# Altium footprint library Tu dien.PcbLib: 73 footprints (part 3 of 5)
Each footprint in its own frame and in the unit in brackets; x right, y up, seen from the top. Pads: shape width x height; smd on the part's side, far side on the other; paste and mask are expansions set on the pad; w line width, h text height; cw(c..) or ccw(c..) is an arc to the next point about the centre after c.
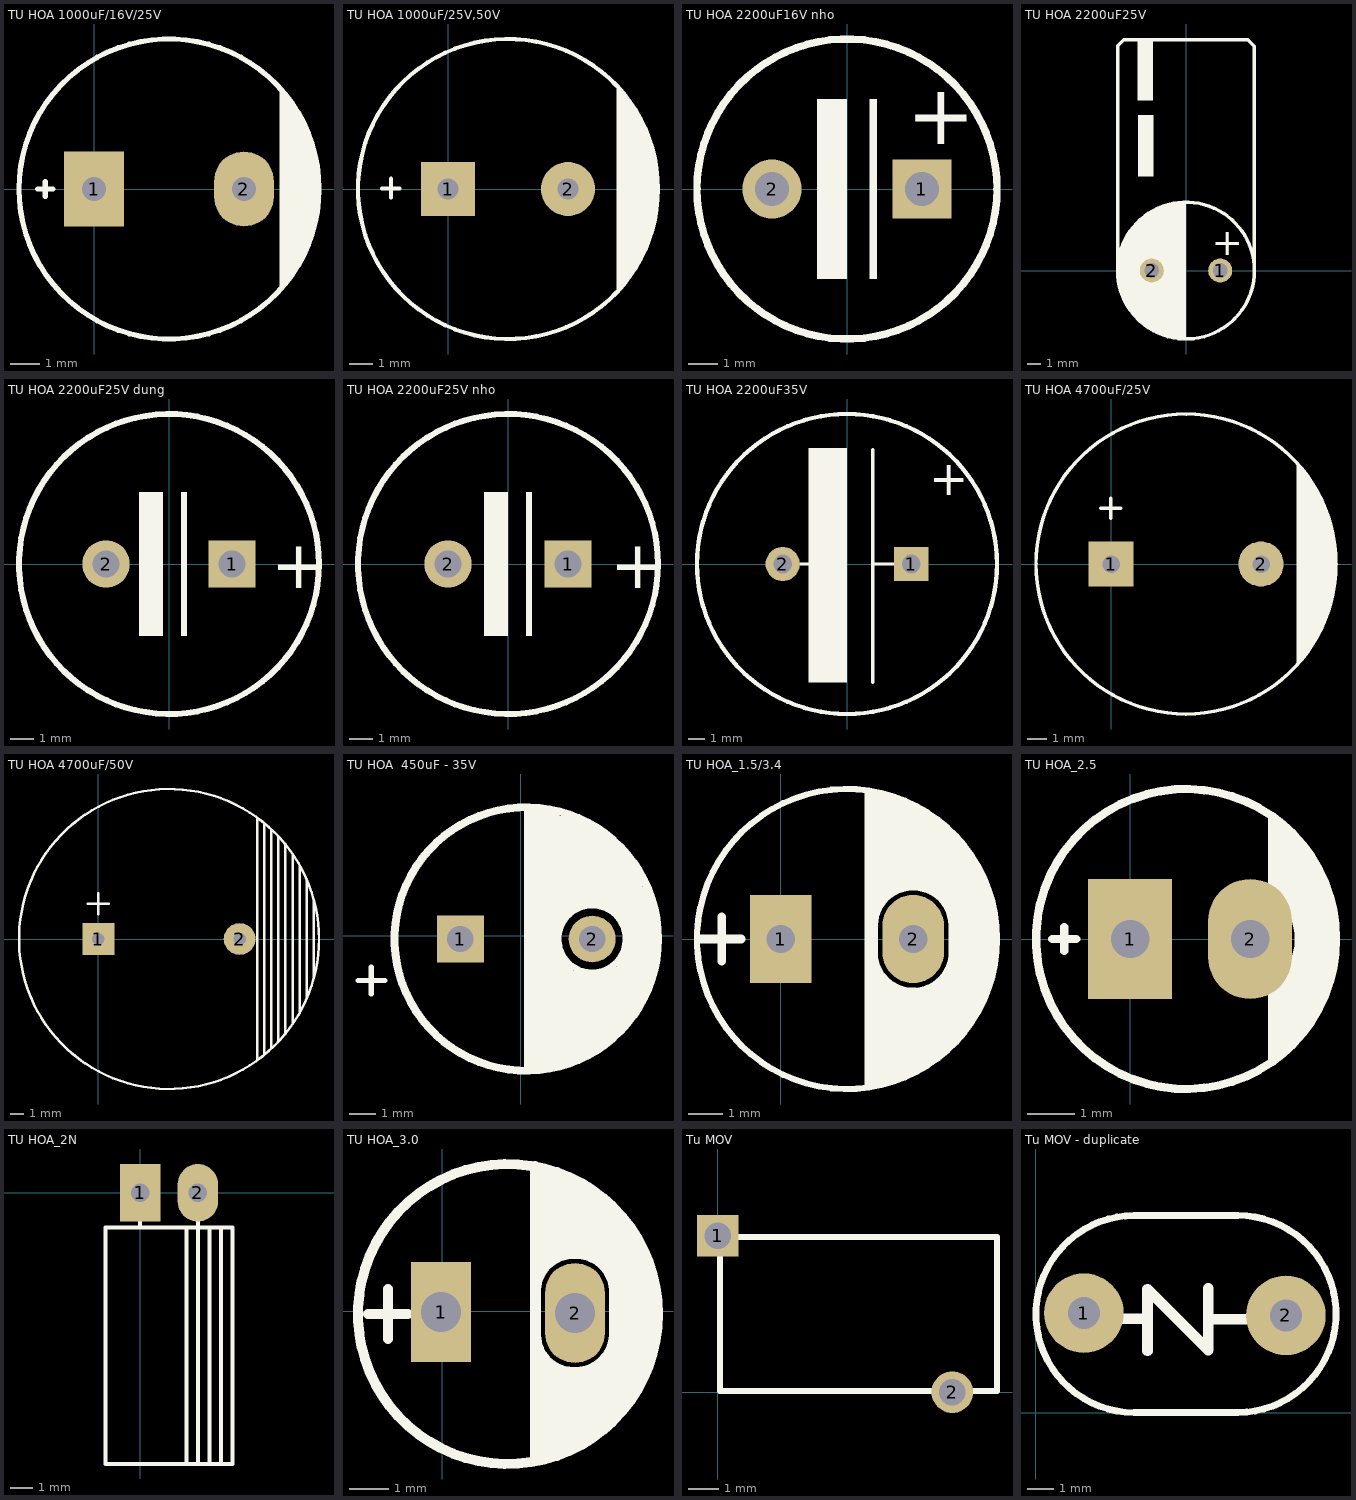
[diagram p2: the footprints below, top view; thin cyan lines are the x and y axes]

## TU HOA 1000uF/16V/25V [mil] "Tu hoa 1000uF/16V/25V"
height 400
pads (2):
  rect 80x100 hole 32: 1(0,0)
  oval 80x100 hole 32: 2(200,0)
Top Overlay:
  circle w7: c100,0 r200
  region: 248,133 248,-134 262,-117 274,-97 284,-81 293,-55 299,-21 298,21 296,46 281,85 258,122
  lines w7: -75,0 -55,0 ; -65,-10 -65,10

## TU HOA 1000uF/25V,50V [mil] "Tu hoa 1000uF/25V,50V"
height 600
pads (2):
  rect 90x90 hole 35: 1(0,0)
  round 90 hole 35: 2(200,0)
Top Overlay:
  circle w7: c100,0 r250
  region: 281,174 281,-175 300,-149 301,-151 318,-124 334,-90 349,-29 350,0 348,34 341,70 321,116
  lines w7: -110,1 -81,1 ; -95,-14 -95,17
3D body "User Library-Cap12_5x25.STEP": height 984.37, standoff -747.43, extent -141.06,-247.12 351.06,245

## TU HOA 2200uF16V nho [mm] "2200uFX16V loai nho"
height 20.32
pads (2):
  rect 2x2 hole 1.143: 1(2.54,0)
  round 2 hole 1.143: 2(-2.54,0)
Top Overlay:
  circle w0.254: c0,0 r5.08
  rectangle: -1.016,-3.048 0,3.048
  rectangle: 0.762,-3.048 1.016,3.048
  text "+" at 2.032,1.524 h2.03

## TU HOA 2200uF25V [mil] "2200uFX25V"
pads (2):
  round 70 hole 43.31: 1(100,0) 2(-100,0)
Top Overlay:
  circle w10: c0,0 r200
  region: -95,455 -140,455 -140,275 -95,275
  rectangle: -142,497 -97,677
  rectangle: -100,-110 -40,100
  rectangle: -50,-195 0,195
  lines w10: -200,-5 -200,657 -182,675 181,675 200,656 200,0
  lines w100: -54.85,139.61 ccw(c0,0) -50.45,-141.26
  text "+" at 75,45 h80
3D body "CapCong10x16x5.step": height 397.85, standoff -141.89, extent -196.84,-30.6 198.85,677.61

## TU HOA 2200uF25V dung [mm] "2200uFX25V dung"
height 12.7
pads (2):
  rect 2x2 hole 1.143: 1(2.667,0)
  round 2 hole 1.143: 2(-2.667,0)
Top Overlay:
  circle w0.254: c0,0 r6.35
  rectangle: -1.27,-3.048 -0.254,3.048
  rectangle: 0.508,-3.048 0.762,3.048
  text "+" at 4.318,-1.016 h2.03

## TU HOA 2200uF25V nho [mm] "2200uFX25V loai nho"
height 20.32
pads (2):
  rect 2x2 hole 1.143: 1(2.54,0)
  round 2 hole 1.143: 2(-2.54,0)
Top Overlay:
  circle w0.254: c0,0 r6.35
  rectangle: 0.762,-3.048 1.016,3.048
  rectangle: -1.016,-3.048 0,3.048
  text "+" at 4.318,-1.016 h2.03

## TU HOA 2200uF35V [mil]
pads (2):
  rect 80x80 hole 43.31: 1(150,0)
  round 80 hole 43.31: 2(-150,0)
Top Overlay:
  circle w10: c0,0 r350
  rectangle: -90,-277 0,271
  lines w7.87: -120.94,0 -70,0 ; 60,-276 60,267 ; 61.06,0 120,0
  text "+" at 192,161 h80

## TU HOA 4700uF/25V [mil] "Tu hoa 4700uF/25V"
height 600
pads (2):
  rect 90x90 hole 35: 1(0,0)
  round 90 hole 35: 2(300,0)
Top Overlay:
  circle w7: c150,0 r300
  region: 425,112 433,96 442,79 447,39 450,-9 449,-34 442,-69 429,-115 397,-171 382,-191 371,-203 371,200 384.5,182.5 395,168 408,153
  lines w7: -21,112 19,112 ; -1,92 -1,132

## TU HOA 4700uF/50V [mil] "Tu hoa 4700uF/50V"
height 600
pads (2):
  rect 90x90 hole 35: 1(0,0)
  round 90 hole 35: 2(400,0)
Top Overlay:
  circle w7: c200,0 r425
  lines w7: -30,100 30,100 ; 0,70 0,130 ; 450,-340 450,340 ; 470,-325 470,325 ; 490,-310 490,310 ; 510,-290 510,290 ; 530,-265 530,265 ; 550,-240 550,240 ; 570,-210 570,205 ; 590,-165 590,170
  lines w8: 610,-110 610,110
3D body "User Library-ECEC2DP271BJ.STEP": height 984.25, standoff 0, extent -236.14,-438.07 630,428.07

## TU HOA  450uF - 35V [mil]
pads (2):
  rect 70x70 hole 39.37 unplated: 1(-90,-5)
  round 70 hole 39.37 unplated: 2(106.85,-5)
Top Overlay:
  circle w11.81: c8.43,-5 r196.85
  rectangle: 20,-197 58,187
  rectangle: 52,45 182,83
  rectangle: 54,-95 180,-53
  rectangle: 54,-191 82,-95
  rectangle: 82,-181 100,-95
  rectangle: 100,-173 116,-95
  rectangle: 116,-165 128,-95
  rectangle: 128,-157 140,-95
  rectangle: 140,-145 148,-95
  rectangle: 148,-137 156,-95
  rectangle: 156,-127 164,-95
  rectangle: 164,-117 172,-95
  rectangle: 172,-107 180,-95
  rectangle: 157.53,-55 200,49
  rectangle: 52,83 178,95
  rectangle: 52,95 172,103
  rectangle: 52,103 166,113
  rectangle: 52,113 160,123
  rectangle: 52,123 150,133
  rectangle: 52,133 140,143
  rectangle: 52,143 130,151
  rectangle: 52,151 70,179
  rectangle: 70,151 84,177
  rectangle: 84,151 94,173
  rectangle: 94,151 106,167
  rectangle: 106,151 120,159
  rectangle: 182,45 192,73
  rectangle: 180,-93 188,-53
  rectangle: 188,-73 196,-53
  rectangle: 134,-55 157.53,-47
  rectangle: 144,-47 157.53,-43
  rectangle: 154,-43 157.53,-27
  rectangle: 146,-43 154,-33
  rectangle: 52,37 84,45
  rectangle: 54,29 74,39
  rectangle: 54,21 64,29
  rectangle: 130,39 160,47
  rectangle: 152,17 160,39
  rectangle: 140,33 152,39
  rectangle: 148,25 152,33
  rectangle: 54,-53 78,-47
  rectangle: 54,-47 64,-31
  rectangle: 64,-47 72,-39
  lines w7.87: -243,-67 -203,-67 ; -223,-87 -223,-47
  lines w10: 10,189 10,-201 18,-201 18,185 ; 157.5,-6.71 cw(c106.85,-5) 157.53,-5
3D body "Cap 10X14_.step": height 555.72, standoff -185.22, extent -186.85,-203.24 206.85,190
3D body "Cap 10X14_.step": height 555.72, standoff -185.22, extent -190,-201.62 203.7,191.62

## TU HOA_1.5/3.4 [mil] "Tu hoa 220->470uF,16V, 470uF/16V,25V"
height 300
pads (2):
  rect 70x100 hole 32: 1(0,0)
  oval 70x100 hole 32: 2(150,0)
Top Overlay:
  circle w7: c75,0 r170
  region: 100,25 135,60 162.93,60 164.6,59.92 167.88,59.26 170.98,57.98 173.76,56.12 175,55 181.46,48.54 182.26,47.66 183.57,45.69 184.48,43.5 184.94,41.18 185,40 190,35 191.12,33.76 192.98,30.98 194.26,27.88 194.92,24.6 195,22.93 195,-27.93 194.92,-29.6 194.26,-32.88 192.98,-35.98 191.12,-38.76 190,-40 178.54,-51.46 177.66,-52.26 175.69,-53.57 173.5,-54.48 171.18,-54.94 170,-55 168.76,-56.12 165.98,-57.98 162.88,-59.26 159.6,-59.92 157.93,-60 144.14,-60 140.8,-59.84 134.23,-58.53 128.05,-55.97 122.48,-52.25 120,-50 108.54,-38.54 107.74,-37.66 106.43,-35.69 105.52,-33.5 105.06,-31.18 105,-30 100,-30 100,-170 155,-150 195,-120 225,-80 245,-20 245,20 230,70 200,115 165,145 120,165 100,170
  lines w10: -90,0 -45,0 ; -67,-25 -67,25 ; 100,-165 100,165 ; 100,25 105,25 ; 105,-20 105,30 ; 105,-10 ccw(c150,-15) 145,-60 ccw(c150,-15) 195,-20 195,15 ccw(c150,15) 150,60 ccw(c150,15) 105,15
3D body "User Library-CAP 8X11_5.STEP": height 445.89, standoff -754.41, extent -84.96,-157.48 230,157.48

## TU HOA_2.5 [mil] "Tu hoa 33 >100 uF,50V, 220uF/16V,25V"
height 300
pads (2):
  rect 70x100 hole 32: 1(0,0)
  oval 70x100 hole 32: 2(100,0)
Top Overlay:
  circle w7: c46.58,0 r125
  region: 115,105 115,36 122,31 129,25 133,20 135,15 137,5 137,-6 135,-14 132,-19 128,-24 124,-28 120,-31 115,-34 115,-107 124,-99 139,-86 152,-69 167,-36 171,-15 171.58,0 167,30 153,67 131,93
  lines w7: -65,0 -45,0 ; -55,-10 -55,-5 -55,5 -55,10
3D body "User Library-Cap 6_3x11.STEP": height 421.54, standoff -759.57, extent -76,-124.03 172.03,124

## TU HOA_2N [mil] "Tu hoa < 22uF/16>50V"
height 300
pads (2):
  rect 70x100 hole 32: 1(0,0)
  oval 70x100 hole 32: 2(100,0)
Top Overlay:
  lines w7: 0,-60 0,-45 ; 80,-470 80,-60 ; 100,-470 100,-60 100,-45 ; 120,-470 120,-60 ; 140,-470 140,-60 ; -60,-470 -60,-60 160,-60 160,-470 -60,-470
3D body "User Library-Cap electro 5x7x2mm RA.STEP": height 199.43, standoff -136.22, extent -54.42,-351.27 144.43,15.7

## TU HOA_3.0 [mil]
pads (2):
  rect 60x100 hole 40: 1(-1,-1)
  oval 60x100 hole 40: 2(133,-2)
Top Overlay:
  circle w10: c66,-3 r150
  region: 93,146 93,37 121,58 143,58 165,42 174,-3 166,-43 141,-62 106,-53 92,-36 93,-150 152,-128 208,-60 216,16 185,93 139,129
  lines w10: -74,-3 -34,-3 ; -54,-28 -54,22 ; 93,-147 93,145 ; 94,-27 94,22 cw(c131.5,19.5) 131.01,57.08 ; 94,-25 ccw(c131.5,-23.5) 133,-61 ccw(c133.5,-22.5) 172,-23 ; 131,57 cw(c134,19) 172,22 ; 172,-30 172,25
3D body "User Library-CAP 8X11_5.STEP": height 452.87, standoff -747.43, extent -90,-162.48 224.96,152.48

## Tu MOV [mm]
pads (2):
  rect 1.35x1.35 hole 0.85 paste-2539.97 mask+0: 1(0,5.08)
  round 1.35 hole 0.85 paste-2539.97 mask+0: 2(7.62,0)
Top Overlay:
  lines w0.2: 0.072,0.04 0.072,5.04 9.072,5.04 9.072,0.04 0.072,0.04
Top 3D Body:
  lines w0.2: 0.072,0.04 0.072,5.04 9.072,5.04 9.072,3.79 9.072,1.29 9.072,0.04 0.072,0.04
3D body "Res_Bourns_Inc_MOV-07D471KTR_eec.STEP": height 0.25, standoff 0, extent -0.028,-0.06 9.172,5.14

## Tu MOV - duplicate [mm]
pads (2):
  round 3 hole 1.2 paste-2539.97 mask+0: 1(1.821,3.753) 2(9.445,3.662)
Top Overlay:
  lines w0.2: 3.009,3.54 4.236,3.54 ; 6.737,3.549 7.965,3.549
  lines w0.254: 3.72,-0.004 cw(c3.736,3.716) 3.72,7.436 7.625,7.436 ; 3.725,0 7.63,0 ccw(c7.615,3.72) 7.63,7.44
  lines w0.406: 2.972,3.54 4.218,3.54 ; 4.218,2.333 4.218,4.655 6.511,2.362 6.511,4.681 ; 6.511,3.522 7.937,3.522
3D body "User Library-final MOV7,5.STEP": height 16.5, standoff -2, extent 0,2.745 11.29,4.595